# Altium schematic symbol library TIDA_00620.SchLib: 58 symbols (part 3 of 5)
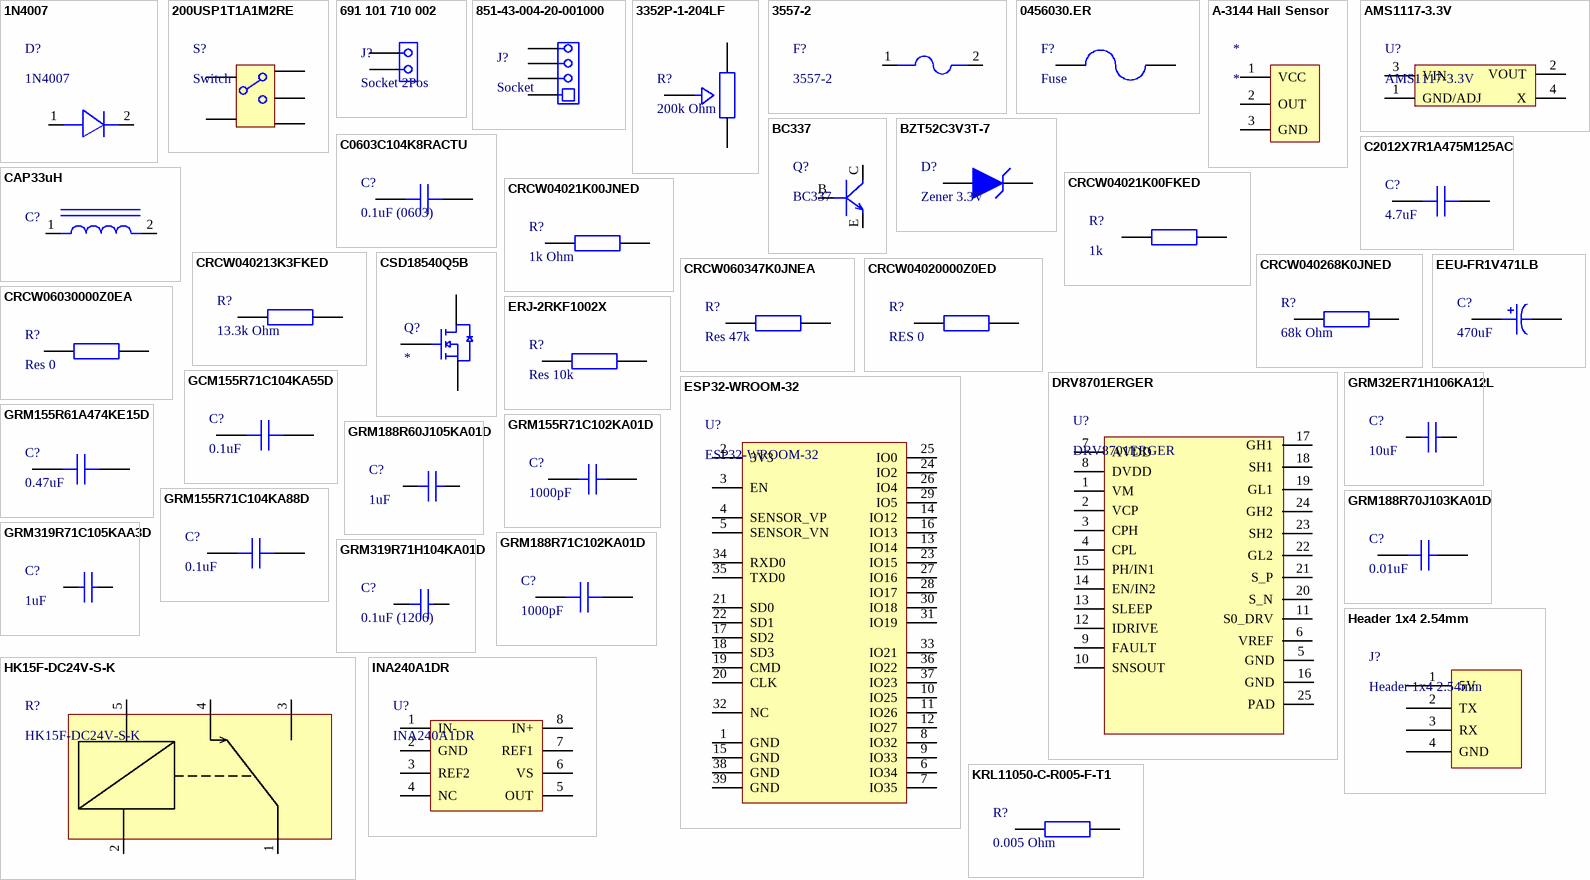
[diagram p3: symbols 1N4007 to KRL11050-C-R005-F-T1]

## CRCW04020000Z0ED
designator R?, comment RES 0
CRCW Series 0402 0.063 W 0 Ohm Jumper Surface Mount Thick Film Chip Resistor; Manufacturer: Vishay; Manufacturer Part Number: CRCW04020000Z0ED; Max Power Dissipation: 63mW; Value: 0Ω; Temperature Coefficient: 100ppm/°C; Tolerance: 5%; Voltage Rating: 50V; Supplier: Farnell; Supplier Part Number: 2121349; RoHS: Compliant; Category: Chip SMD Resistors; Stock: 10374823; Pricing: 10000=0,0033 (EUR); Case/Package: 0402; Case Code (Imperial): 0402; Case Code (Metric): 0402; China RoHS: Non-Compliant; Composition: Thick Film; Contact Plating: Tin; Depth: 500µm; Features: Automotive AEC-Q200; Height: 350µm; Lead Free: Lead Free; Length: 1mm; Lifecycle Status: Production; Max Operating Temperature: 155°C; Military Standard: Not; Min Operating Temperature: -55°C; Mounting Technology: Surface Mount; Pins: 2; Number of Terminals: 2; Number of Terminations: 2; Power Dissipation: 63mW; Power Rating: 63mW; Radiation Hardening: No; REACH SVHC: Yes; Schedule B: 8533210045, 8533210045|8533210045|8533210045|8533210045|8533210045|8533210045|8533210045|8533210045|8533210045|8533210045|8533210045|8533210045|8533210045|8533210045|8533210045|8533210045|8533210045|8533210045|8533210045|8533210045|8533210045|8533210045|8533210045|85; Termination: SMD/SMT; Voltage Rating (DC): 50V; Weight: 652.039032µg; Width: 500µm; ComponentLink1URL: https://datasheet.octopart.com:443/CRCW04020000Z0ED-Vishay-datasheet-175423584.pdf?src-supplier=IHS; ComponentLink1Description: https://datasheet.octopart.com:443/CRCW04020000Z0ED-Vishay-datasheet-175423584.pdf?src-supplier=IHS; ComponentLink2URL: https://datasheet.octopart.com:443/CRCW04020000Z0ED-Vishay-datasheet-5300368.pdf?src-supplier=Future+Electronics; ComponentLink2Description: https://datasheet.octopart.com:443/CRCW04020000Z0ED-Vishay-datasheet-5300368.pdf?src-supplier=Future+Electronics; ComponentLink3URL: https://datasheet.octopart.com:443/CRCW04020000Z0ED-Vishay-datasheet-62316122.pdf?src-supplier=Future+Electronics; ComponentLink3Description: https://datasheet.octopart.com:443/CRCW04020000Z0ED-Vishay-datasheet-62316122.pdf?src-supplier=Future+Electronics; ComponentLink4URL: https://datasheet.octopart.com:443/CRCW04020000Z0ED-Vishay-datasheet-83961561.pdf?src-supplier=Newark; ComponentLink4Description: https://datasheet.octopart.com:443/CRCW04020000Z0ED-Vishay-datasheet-83961561.pdf?src-supplier=Newark; ComponentLink5URL: https://datasheet.octopart.com:443/CRCW04020000Z0ED-Vishay-datasheet-14722531.pdf?src-supplier=Newark; ComponentLink5Description: https://datasheet.octopart.com:443/CRCW04020000Z0ED-Vishay-datasheet-14722531.pdf?src-supplier=Newark; ComponentLink6URL: https://datasheet.octopart.com:443/CRCW04020000Z0ED-Vishay-datasheet-11516975.pdf?src-supplier=Newark; ComponentLink6Description: https://datasheet.octopart.com:443/CRCW04020000Z0ED-Vishay-datasheet-11516975.pdf?src-supplier=Newark; ComponentLink7URL: https://datasheet.octopart.com:443/CRCW04020000Z0ED-Vishay-datasheet-41302739.pdf?src-supplier=Newark; ComponentLink7Description: https://datasheet.octopart.com:443/CRCW04020000Z0ED-Vishay-datasheet-41302739.pdf?src-supplier=Newark; ComponentLink8URL: https://datasheet.octopart.com:443/CRCW04020000Z0ED-Vishay-datasheet-27121962.pdf?src-supplier=Newark; ComponentLink8Description: https://datasheet.octopart.com:443/CRCW04020000Z0ED-Vishay-datasheet-27121962.pdf?src-supplier=Newark; ComponentLink9URL: https://datasheet.octopart.com:443/CRCW04020000Z0ED-Vishay-datasheet-62317933.pdf?src-supplier=element14+APAC; ComponentLink9Description: https://datasheet.octopart.com:443/CRCW04020000Z0ED-Vishay-datasheet-62317933.pdf?src-supplier=element14+APAC; ComponentLink10URL: https://datasheet.octopart.com:443/CRCW04020000Z0ED-Vishay-datasheet-16179825.pdf?src-supplier=element14+APAC; ComponentLink10Description: https://datasheet.octopart.com:443/CRCW04020000Z0ED-Vishay-datasheet-16179825.pdf?src-supplier=element14+APAC; ComponentLink11URL: https://datasheet.octopart.com:443/CRCW04020000Z0ED-Vishay-datasheet-66077789.pdf?src-supplier=element14+APAC; ComponentLink11Description: https://datasheet.octopart.com:443/CRCW04020000Z0ED-Vishay-datasheet-66077789.pdf?src-supplier=element14+APAC; ComponentLink12URL: https://datasheet.octopart.com:443/CRCW04020000Z0ED-Vishay-datasheet-5306405.pdf?src-supplier=RS+(Formerly+Allied+Electronics); ComponentLink12Description: https://datasheet.octopart.com:443/CRCW04020000Z0ED-Vishay-datasheet-5306405.pdf?src-supplier=RS+(Formerly+Allied+Electronics); ComponentLink13URL: https://datasheet.octopart.com:443/CRCW04020000Z0ED-Vishay-Dale-datasheet-47688880.pdf?src-supplier=RS+(Formerly+Allied+Electronics); ComponentLink13Description: https://datasheet.octopart.com:443/CRCW04020000Z0ED-Vishay-Dale-datasheet-47688880.pdf?src-supplier=RS+(Formerly+Allied+Electronics); ComponentLink14URL: https://datasheet.octopart.com:443/CRCW04020000Z0ED-Vishay-Dale-datasheet-38056517.pdf?src-supplier=RS+(Formerly+Allied+Electronics); ComponentLink14Description: https://datasheet.octopart.com:443/CRCW04020000Z0ED-Vishay-Dale-datasheet-38056517.pdf?src-supplier=RS+(Formerly+Allied+Electronics); ComponentLink15URL: https://datasheet.octopart.com:443/CRCW04020000Z0ED-Vishay-datasheet-12001583.pdf?src-supplier=RS+(Formerly+Allied+Electronics); ComponentLink15Description: https://datasheet.octopart.com:443/CRCW04020000Z0ED-Vishay-datasheet-12001583.pdf?src-supplier=RS+(Formerly+Allied+Electronics); ComponentLink16URL: https://datasheet.octopart.com:443/CRCW04020000Z0ED-Vishay-datasheet-134526670.pdf?src-supplier=TME; ComponentLink16Description: https://datasheet.octopart.com:443/CRCW04020000Z0ED-Vishay-datasheet-134526670.pdf?src-supplier=TME; ComponentLink17URL: https://datasheet.octopart.com:443/CRCW04020000Z0ED-Vishay-datasheet-17834126.pdf?src-supplier=TME; ComponentLink17Description: https://datasheet.octopart.com:443/CRCW04020000Z0ED-Vishay-datasheet-17834126.pdf?src-supplier=TME; ComponentLink18URL: https://datasheet.octopart.com:443/CRCW04020000Z0ED-Vishay-datasheet-17599201.pdf?src-supplier=TME; ComponentLink18Description: https://datasheet.octopart.com:443/CRCW04020000Z0ED-Vishay-datasheet-17599201.pdf?src-supplier=TME; ComponentLink19URL: https://datasheet.octopart.com/D-CRCW-e3-Standard-Thick-Film-Chip-Resistors-Vishay-datasheet-family-64.pdf; ComponentLink19Description: https://datasheet.octopart.com/D-CRCW-e3-Standard-Thick-Film-Chip-Resistors-Vishay-datasheet-family-64.pdf; ComponentLink20URL: https://datasheet.octopart.com:443/CRCW04020000Z0ED-Vishay-datasheet-13242068.pdf?src-supplier=Farnell; ComponentLink20Description: https://datasheet.octopart.com:443/CRCW04020000Z0ED-Vishay-datasheet-13242068.pdf?src-supplier=Farnell; ComponentLink21URL: https://datasheet.octopart.com:443/CRCW04020000Z0ED-Vishay-datasheet-13195083.pdf?src-supplier=Farnell; ComponentLink21Description: https://datasheet.octopart.com:443/CRCW04020000Z0ED-Vishay-datasheet-13195083.pdf?src-supplier=Farnell; ComponentLink22URL: https://datasheet.octopart.com:443/CRCW04020000Z0ED-Vishay-datasheet-13034211.pdf?src-supplier=Farnell; ComponentLink22Description: https://datasheet.octopart.com:443/CRCW04020000Z0ED-Vishay-datasheet-13034211.pdf?src-supplier=Farnell; ComponentLink23URL: https://datasheet.octopart.com:443/CRCW04020000Z0ED-Vishay-datasheet-12600034.pdf?src-supplier=Farnell; ComponentLink23Description: https://datasheet.octopart.com:443/CRCW04020000Z0ED-Vishay-datasheet-12600034.pdf?src-supplier=Farnell; ComponentLink24URL: https://datasheet.octopart.com:443/CRCW04020000Z0ED-Vishay-datasheet-12532161.pdf?src-supplier=Farnell; ComponentLink24Description: https://datasheet.octopart.com:443/CRCW04020000Z0ED-Vishay-datasheet-12532161.pdf?src-supplier=Farnell; ComponentLink25URL: https://datasheet.octopart.com:443/CRCW04020000Z0ED-Vishay-datasheet-12517896.pdf?src-supplier=Farnell; ComponentLink25Description: https://datasheet.octopart.com:443/CRCW04020000Z0ED-Vishay-datasheet-12517896.pdf?src-supplier=Farnell; ComponentLink26URL: https://datasheet.octopart.com:443/CRCW04020000Z0ED-Vishay-datasheet-12509762.pdf?src-supplier=Farnell; ComponentLink26Description: https://datasheet.octopart.com:443/CRCW04020000Z0ED-Vishay-datasheet-12509762.pdf?src-supplier=Farnell; ComponentLink27URL: https://datasheet.octopart.com:443/CRCW04020000Z0ED-Vishay-datasheet-10322335.pdf?src-supplier=Farnell; ComponentLink27Description: https://datasheet.octopart.com:443/CRCW04020000Z0ED-Vishay-datasheet-10322335.pdf?src-supplier=Farnell; ComponentLink28URL: https://datasheet.octopart.com:443/CRCW04020000Z0ED-Vishay-datasheet-8788789.pdf?src-supplier=Farnell; ComponentLink28Description: https://datasheet.octopart.com:443/CRCW04020000Z0ED-Vishay-datasheet-8788789.pdf?src-supplier=Farnell; ComponentLink29URL: https://datasheet.octopart.com:443/CRCW04020000Z0ED-Vishay-datasheet-8361388.pdf?src-supplier=Farnell; ComponentLink29Description: https://datasheet.octopart.com:443/CRCW04020000Z0ED-Vishay-datasheet-8361388.pdf?src-supplier=Farnell; ComponentLink30URL: https://datasheet.octopart.com:443/CRCW04020000Z0ED-Vishay-datasheet-546287.pdf?src-supplier=Farnell; ComponentLink30Description: https://datasheet.octopart.com:443/CRCW04020000Z0ED-Vishay-datasheet-546287.pdf?src-supplier=Farnell; ComponentLink31URL: https://datasheet.octopart.com:443/CRCW04020000Z0ED-Vishay-datasheet-14190200.pdf?src-supplier=iiiC; ComponentLink31Description: https://datasheet.octopart.com:443/CRCW04020000Z0ED-Vishay-datasheet-14190200.pdf?src-supplier=iiiC; ComponentLink32URL: https://datasheet.octopart.com:443/CRCW04020000Z0ED-Vishay-datasheet-11540273.pdf?src-supplier=Arrow+Electronics; ComponentLink32Description: https://datasheet.octopart.com:443/CRCW04020000Z0ED-Vishay-datasheet-11540273.pdf?src-supplier=Arrow+Electronics; ComponentLink33URL: https://datasheet.octopart.com:443/CRCW04020000Z0ED-Vishay-datasheet-8619608.pdf?src-supplier=element14; ComponentLink33Description: https://datasheet.octopart.com:443/CRCW04020000Z0ED-Vishay-datasheet-8619608.pdf?src-supplier=element14; ComponentLink34URL: https://datasheet.octopart.com:443/CRCW04020000Z0ED-Vishay-datasheet-5377255.pdf?src-supplier=Garrett; ComponentLink34Description: https://datasheet.octopart.com:443/CRCW04020000Z0ED-Vishay-datasheet-5377255.pdf?src-supplier=Garrett; ComponentLink35URL: https://datasheet.octopart.com:443/CRCW04020000Z0ED-Vishay-datasheet-148188.pdf?src-supplier=Garrett; ComponentLink35Description: https://datasheet.octopart.com:443/CRCW04020000Z0ED-Vishay-datasheet-148188.pdf?src-supplier=Garrett; ComponentLink36URL: https://datasheet.octopart.com:443/CRCW04020000Z0ED-Vishay-datasheet-42367.pdf?src-supplier=Garrett; ComponentLink36Description: https://datasheet.octopart.com:443/CRCW04020000Z0ED-Vishay-datasheet-42367.pdf?src-supplier=Garrett; ComponentLink37URL: http://sigma.octopart.com:80/rohs_certificate/D-CRCW-e3-Standard-Thick-Film-Chip-Resistors-Vishay-family-102.pdf?src-supplier=Compliance+Statements; ComponentLink37Description: http://sigma.octopart.com:80/rohs_certificate/D-CRCW-e3-Standard-Thick-Film-Chip-Resistors-Vishay-family-102.pdf?src-supplier=Compliance+Statements
footprint RES0402- CRCW04020000Z0ED (Chip Resistor, 2-Leads, Body 1,00x0,50mm, IPC Medium Density)
pins: 1, 2

## CRCW06030000Z0EA
designator R?, comment Res 0
Zero Ohm Resistor, Jumper, 0603 [1608 Metric], Thick Film, 100 mW, 2 A, Surface Mount Device; Manufacturer: Vishay; Manufacturer Part Number: CRCW06030000Z0EAC; Power Dissipation: 100mW; Value: 0Ω; Voltage Rating: 75V; Supplier: Farnell; Supplier Part Number: 4177541; RoHS: Compliant; Category: Chip SMD Resistors; Stock: 52368; Pricing: 10=0,0124, 100=0,0067, 500=0,0066, 1000=0,0064, 2500=0,0047, 5000=0,0029 (EUR); Case/Package: 0603; China RoHS: Non-Compliant; Composition: Thick Film; Contact Plating: Tin; Height: 450µm; Lead Free: Lead Free; Length: 1.55mm; Lifecycle Status: Production; Max Operating Temperature: 155°C; Min Operating Temperature: -55°C; Mounting Technology: Surface Mount; Pins: 2; Number of Terminals: 2; Power Rating: 100mW; REACH SVHC: Yes; Termination: Wraparound; Width: 800µm; ComponentLink1URL: https://datasheet.octopart.com:443/CRCW06030000Z0EAC-Vishay-datasheet-102570912.pdf?src-supplier=Upverter; ComponentLink1Description: https://datasheet.octopart.com:443/CRCW06030000Z0EAC-Vishay-datasheet-102570912.pdf?src-supplier=Upverter; ComponentLink2URL: https://datasheet.octopart.com:443/CRCW06030000Z0EAC-Vishay-datasheet-175423585.pdf?src-supplier=Newark; ComponentLink2Description: https://datasheet.octopart.com:443/CRCW06030000Z0EAC-Vishay-datasheet-175423585.pdf?src-supplier=Newark; ComponentLink3URL: https://datasheet.octopart.com:443/CRCW06030000Z0EAC-Vishay-datasheet-100063072.pdf?src-supplier=Future+Electronics; ComponentLink3Description: https://datasheet.octopart.com:443/CRCW06030000Z0EAC-Vishay-datasheet-100063072.pdf?src-supplier=Future+Electronics; ComponentLink4URL: https://datasheet.octopart.com:443/CRCW06030000Z0EAC-Vishay-datasheet-62316122.pdf?src-supplier=Future+Electronics; ComponentLink4Description: https://datasheet.octopart.com:443/CRCW06030000Z0EAC-Vishay-datasheet-62316122.pdf?src-supplier=Future+Electronics; ComponentLink5URL: http://sigma.octopart.com:80/rohs_statement/Vishay-company-15.pdf?src-supplier=Compliance+Statements; ComponentLink5Description: http://sigma.octopart.com:80/rohs_statement/Vishay-company-15.pdf?src-supplier=Compliance+Statements
footprint RES0603 - CRCW060347K0JNEA (Chip Resistor, 2-Leads, Body 1,63x0,85mm, IPC Medium Density CRCW06030000Z0EA)
pins: 1, 2

## CSD18540Q5B
designator Q?
60-V, N channel NexFET™ power MOSFET, single SON 5 mm x 6 mm, 2.2 mOhm 8-VSON-CLIP -55 to 175; Manufacturer: Texas Instruments; Manufacturer Part Number: CSD18540Q5B; Manufacturer Lifecycle Status: ACTIVE; Continuous Drain Current (ID): 29A; Drain to Source Resistance: 1.8mΩ; Drain to Source Voltage (Vdss): 60V; Fall Time: 3ns; Gate to Source Voltage (Vgs): 20V; Input Capacitance: 4.23nF; Max Junction Temperature (Tj): 175°C; Max Power Dissipation: 3.1W; Number of Channels: 1; Power Dissipation: 3.8W; Rds On Max: 2.2mΩ; Rise Time: 9ns; Turn-Off Delay Time: 20ns; Turn-On Delay Time: 6ns; Supplier: Arrow Electronics; Supplier Part Number: CSD18540Q5B; RoHS: Compliant; Category: MOSFETs; Stock: 2494; Pricing: 1=2,9541, 10=1,996, 100=1,557, 500=1,287, 1000=1,238 (USD); Contact Plating: Gold; Element Configuration: Single; Height: 0m; Lead Free: Contains Lead; Length: 5mm; Lifecycle Status: Production; Max Operating Temperature: 175°C; Min Operating Temperature: -55°C; Mounting Technology: Surface Mount; Pins: 8; Packaging: Tape & Reel (TR); Schedule B: 8541290080, 8541290080|8541290080|8541290080|8541290080|8541290080; Thickness: 950µm; Width: 5mm; ComponentLink1URL: https://datasheet.octopart.com:443/CSD18540Q5B-Texas-Instruments-datasheet-41215267.pdf?src-supplier=Texas+Instruments; ComponentLink1Description: https://datasheet.octopart.com:443/CSD18540Q5B-Texas-Instruments-datasheet-41215267.pdf?src-supplier=Texas+Instruments; ComponentLink2URL: https://octopart.com:443/opatz8j6/c1?t=ISFu1-n-gJ7N7b33qO17JmW3i98WAe6-qdvwo4eRIXB7W_2yAxMQE3dQvpzCzIrA0lbregClySomlHzFRyM4eBlNEAMzPcTyRgPuL5yv1St7ily1VDrDRrN5fHjn4A-rV4S6itXbFPe3IYpveXBLg-1H57t-PENPQQIhHyNanT-SE8YCS2MA-6pDqEI5zanHcAxrWSf4z3nUT2CAOlw1lpMVrLj3hLq-FRM65fNZsHtynSSi4978rsehlEL-uuPl36TrjaypKMgB8MXF0CgE0nmymmpSSNhgdzSnMUAZN2MvRrEkWpcxgIFWmAkbO9nMsz5cbdSuC3K-OfOG5E8cbAbFmWjkK-5bOBpwZZAQcX5t5rNqpOqKckmRpAsMav-eMVNOj2noOnMw&src-supplier=Texas+Instruments; ComponentLink2Description: https://octopart.com:443/opatz8j6/c1?t=ISFu1-n-gJ7N7b33qO17JmW3i98WAe6-qdvwo4eRIXB7W_2yAxMQE3dQvpzCzIrA0lbregClySomlHzFRyM4eBlNEAMzPcTyRgPuL5yv1St7ily1VDrDRrN5fHjn4A-rV4S6itXbFPe3IYpveXBLg-1H57t-PENPQQIhHyNanT-SE8YCS2MA-6pDqEI5zanHcAxrWSf4z3nUT2CAOlw1lpMVrLj3hLq-FRM65fNZsHtynSSi4978rsehlEL-uuPl36TrjaypKMgB8MXF0CgE0nmymmpSSNhgdzSnMUAZN2MvRrEkWpcxgIFWmAkbO9nMsz5cbdSuC3K-OfOG5E8cbAbFmWjkK-5bOBpwZZAQcX5t5rNqpOqKckmRpAsMav-eMVNOj2noOnMw&src-supplier=Texas+Instruments; ComponentLink3URL: https://datasheet.octopart.com:443/CSD18540Q5B-Texas-Instruments-datasheet-27303987.pdf?src-supplier=Texas+Instruments; ComponentLink3Description: https://datasheet.octopart.com:443/CSD18540Q5B-Texas-Instruments-datasheet-27303987.pdf?src-supplier=Texas+Instruments; ComponentLink4URL: https://datasheet.octopart.com:443/CSD18540Q5B-Texas-Instruments-datasheet-145028107.pdf?src-supplier=Arrow.cn; ComponentLink4Description: https://datasheet.octopart.com:443/CSD18540Q5B-Texas-Instruments-datasheet-145028107.pdf?src-supplier=Arrow.cn; ComponentLink5URL: http://sigma.octopart.com:80/reach_statement/Texas-Instruments-company-64.pdf?src-supplier=Compliance+Statements; ComponentLink5Description: http://sigma.octopart.com:80/reach_statement/Texas-Instruments-company-64.pdf?src-supplier=Compliance+Statements; ComponentLink6URL: http://sigma.octopart.com:80/conflict_mineral_statement/Texas-Instruments-company-63.pdf?src-supplier=Compliance+Statements; ComponentLink6Description: http://sigma.octopart.com:80/conflict_mineral_statement/Texas-Instruments-company-63.pdf?src-supplier=Compliance+Statements
footprint SON 5x6mm - CSD18540Q5B
pins: 1, 2  , 3

## DRV8701ERGER
designator U?
IC MOTOR DRIVER 0V-5.5V 24VQFN / DRV8701 Brushed DC Motor Full-Bridge Gate Driver; Manufacturer: Texas Instruments; Manufacturer Lifecycle Status: ACTIVE; Interface: Parallel; Max Junction Temperature (Tj): 150°C; Max Supply Voltage: 45V; Min Supply Voltage: 5.9V; Nominal Supply Current: 6mA; Number of Outputs: 1; Supplier: Mouser; Supplier Part Number: 595-DRV8701ERGER; Manufacturer Part Number: DRV8701ERGER; RoHS: Compliant; Category: Motor Drivers; Stock: 27951; Pricing: 1=2,5, 10=1,86, 50=1,7, 100=1,53, 1000=1,35, 10000=1,28 (USD); Ambient Temperature Range High: 125°C; Case/Package: VQFN; Height: 1mm; Lead Free: Lead Free; Length: 4mm; Lifecycle Status: Production; Max Operating Temperature: 125°C; Min Operating Temperature: -40°C; Motor Type: Brushed; Mounting Technology: Surface Mount; Pins: 24; Packaging: Tape & Reel (TR); Schedule B: 8542390000, 8542390000|8542390000|8542390000|8542390000|8542390000; Thickness: 880µm; Width: 4mm; ComponentLink1URL: https://octopart.com:443/opatz8j6/c1?t=ehAvkSXBWFOcNy9gonZ63OFc4bGZy_2bC1yLMMZIE2dHvvmlfP0jhbvnU8Lmxs1os63rxVSLRkGfXEyoXZwuI3xa-A0nKTkUdkof3FcH7DoixXm7eccnxPjwKUbon8TyokAeKmHARyr0YTEYu2yTSqZqwhN4T5qjFzB3LmGwYiWcRp1IAWblEDvyTzgm9MlCjGAc7pFp8-BPtV_aZqMkSCa5FXPY0wjPPEvaFqR9bR4LURryWP85fi2f2SdWa8VnjSuqI1QvioQUQNJM9wxRjQVNXkbLhzpyfd5lk-jkTzwJSa7BcbDh8f7bv5xnoKYdxg9tK1lmzh9ymQi7DFEKtgHp_jmJbFmHhosrZ3PDnB4z80oZFuFmV3wgX_LxNwYzUNjWA44&src-supplier=Texas+Instruments; ComponentLink1Description: https://octopart.com:443/opatz8j6/c1?t=ehAvkSXBWFOcNy9gonZ63OFc4bGZy_2bC1yLMMZIE2dHvvmlfP0jhbvnU8Lmxs1os63rxVSLRkGfXEyoXZwuI3xa-A0nKTkUdkof3FcH7DoixXm7eccnxPjwKUbon8TyokAeKmHARyr0YTEYu2yTSqZqwhN4T5qjFzB3LmGwYiWcRp1IAWblEDvyTzgm9MlCjGAc7pFp8-BPtV_aZqMkSCa5FXPY0wjPPEvaFqR9bR4LURryWP85fi2f2SdWa8VnjSuqI1QvioQUQNJM9wxRjQVNXkbLhzpyfd5lk-jkTzwJSa7BcbDh8f7bv5xnoKYdxg9tK1lmzh9ymQi7DFEKtgHp_jmJbFmHhosrZ3PDnB4z80oZFuFmV3wgX_LxNwYzUNjWA44&src-supplier=Texas+Instruments; ComponentLink2URL: https://sigma.octopart.com:443/102096900/technical_drawing/Texas-Instruments-DRV8701ERGER.pdf?src-supplier=Texas+Instruments; ComponentLink2Description: https://sigma.octopart.com:443/102096900/technical_drawing/Texas-Instruments-DRV8701ERGER.pdf?src-supplier=Texas+Instruments; ComponentLink3URL: https://sigma.octopart.com:443/49249793/technical_drawing/Texas-Instruments-DRV8701ERGER.pdf?src-supplier=Texas+Instruments; ComponentLink3Description: https://sigma.octopart.com:443/49249793/technical_drawing/Texas-Instruments-DRV8701ERGER.pdf?src-supplier=Texas+Instruments; ComponentLink4URL: https://datasheet.octopart.com:443/DRV8701ERGER-Texas-Instruments-datasheet-149152576.pdf?src-supplier=SHENGYU+ELECTRONICS; ComponentLink4Description: https://datasheet.octopart.com:443/DRV8701ERGER-Texas-Instruments-datasheet-149152576.pdf?src-supplier=SHENGYU+ELECTRONICS; ComponentLink5URL: https://datasheet.octopart.com:443/DRV8701ERGER-Texas-Instruments-datasheet-41215435.pdf?src-supplier=Future+Electronics; ComponentLink5Description: https://datasheet.octopart.com:443/DRV8701ERGER-Texas-Instruments-datasheet-41215435.pdf?src-supplier=Future+Electronics; ComponentLink6URL: https://datasheet.octopart.com:443/DRV8701ERGER-Texas-Instruments-datasheet-161906130.pdf?src-supplier=LCSC; ComponentLink6Description: https://datasheet.octopart.com:443/DRV8701ERGER-Texas-Instruments-datasheet-161906130.pdf?src-supplier=LCSC; ComponentLink7URL: https://datasheet.octopart.com:443/DRV8701ERGER-Texas-Instruments-datasheet-140571382.pdf?src-supplier=Arrow.cn; ComponentLink7Description: https://datasheet.octopart.com:443/DRV8701ERGER-Texas-Instruments-datasheet-140571382.pdf?src-supplier=Arrow.cn; ComponentLink8URL: http://sigma.octopart.com:80/reach_statement/Texas-Instruments-company-64.pdf?src-supplier=Compliance+Statements; ComponentLink8Description: http://sigma.octopart.com:80/reach_statement/Texas-Instruments-company-64.pdf?src-supplier=Compliance+Statements; ComponentLink9URL: http://sigma.octopart.com:80/conflict_mineral_statement/Texas-Instruments-company-63.pdf?src-supplier=Compliance+Statements; ComponentLink9Description: http://sigma.octopart.com:80/conflict_mineral_statement/Texas-Instruments-company-63.pdf?src-supplier=Compliance+Statements
footprint DRV8701ERGER (QFN, 24-Leads, Body 4,00x4,00mm, Pitch 0,50mm, Thermal Pad 2,80x2,80mm, IPC Medium Density)
pins: 1 VM (power), 2 VCP (power), 3 CPH, 4 CPL, 5 GND (power), 6 VREF, 7 AVDD, 8 DVDD, 9 FAULT, 10 SNSOUT, 11 S0_DRV, 12 IDRIVE, 13 SLEEP, 14 EN/IN2, 15 PH/IN1, 16 GND (power), 17 GH1, 18 SH1, 19 GL1, 20 S_N, 21 S_P, 22 GL2, 23 SH2, 24 GH2, 25 PAD (power)

## EEU-FR1V471LB
designator C?, comment 470uF
Aluminum Electrolytic Capacitor, Polarized, Aluminum (wet), 25V, 20% +Tol, 20% -Tol, 560uF; Manufacturer: Panasonic; Manufacturer Part Number: EEU-FR1V471LB; Manufacturer Lifecycle Status: ACTIVE; Part Series: FR-A; Value: 470µF; ESR (Equivalent Series Resistance): 30mΩ; Lead Diameter: 600µm; Leakage Current: 164.5µA; Life (Hours): 9000hours; Polarity: Polar; Ripple Current: 1.56A; Voltage Rating: 35V; Supplier: Future Electronics; Supplier Part Number: 3028793; RoHS: Compliant; Category: Aluminum Electrolytic Capacitors; Stock: 24000; Pricing: 1000=0,131, 2000=0,13, 4000=0,128, 5000=0,127, 15000=0,124 (USD); Case/Package: Radial; Contact Plating: Tin; Diameter: 8mm; Features: General Purpose; Height: 22mm; Height - Seated (Max): 21.9964mm; Impedance: 30mΩ; Lead Free: Lead Free; Lead Pitch: 5mm; Length: 20mm; Lifecycle Status: Production; Max Operating Temperature: 105°C; Min Operating Temperature: -40°C; Mounting Technology: PCB, Through Hole; Number of Terminals: 2; Radiation Hardening: No; REACH SVHC: Yes; Schedule B: 8532220020, 8532220020|8532220020|8532220020|8532220020|8532220020; Terminal Pitch: 5mm; Termination: Radial; Tolerance: 20%; Voltage Rating (DC): 35V; ComponentLink1URL: https://datasheet.octopart.com:443/EEU-FR1V471LB-Panasonic-datasheet-62330550.pdf?src-supplier=Panasonic; ComponentLink1Description: https://datasheet.octopart.com:443/EEU-FR1V471LB-Panasonic-datasheet-62330550.pdf?src-supplier=Panasonic; ComponentLink2URL: https://datasheet.octopart.com:443/EEU-FR1V471LB-Panasonic-datasheet-154766147.pdf?src-supplier=JRH+Electronics; ComponentLink2Description: https://datasheet.octopart.com:443/EEU-FR1V471LB-Panasonic-datasheet-154766147.pdf?src-supplier=JRH+Electronics; ComponentLink3URL: https://datasheet.octopart.com:443/EEU-FR1V471LB-Panasonic-datasheet-38939130.pdf?src-supplier=RS+(Formerly+Allied+Electronics); ComponentLink3Description: https://datasheet.octopart.com:443/EEU-FR1V471LB-Panasonic-datasheet-38939130.pdf?src-supplier=RS+(Formerly+Allied+Electronics); ComponentLink4URL: https://datasheet.octopart.com:443/EEU-FR1V471LB-Panasonic-datasheet-27908667.pdf?src-supplier=RS+(Formerly+Allied+Electronics); ComponentLink4Description: https://datasheet.octopart.com:443/EEU-FR1V471LB-Panasonic-datasheet-27908667.pdf?src-supplier=RS+(Formerly+Allied+Electronics); ComponentLink5URL: https://datasheet.octopart.com:443/EEU-FR1V471LB-Panasonic-datasheet-56871308.pdf?src-supplier=RS+(Formerly+Allied+Electronics); ComponentLink5Description: https://datasheet.octopart.com:443/EEU-FR1V471LB-Panasonic-datasheet-56871308.pdf?src-supplier=RS+(Formerly+Allied+Electronics); ComponentLink6URL: https://datasheet.octopart.com:443/EEU-FR1V471LB-Panasonic-datasheet-13267316.pdf?src-supplier=Newark; ComponentLink6Description: https://datasheet.octopart.com:443/EEU-FR1V471LB-Panasonic-datasheet-13267316.pdf?src-supplier=Newark; ComponentLink7URL: https://datasheet.octopart.com:443/EEU-FR1V471LB-Panasonic-datasheet-16820802.pdf?src-supplier=Newark; ComponentLink7Description: https://datasheet.octopart.com:443/EEU-FR1V471LB-Panasonic-datasheet-16820802.pdf?src-supplier=Newark; ComponentLink8URL: https://datasheet.octopart.com:443/EEUFR1V471LB-Panasonic-datasheet-150469843.pdf?src-supplier=TME; ComponentLink8Description: https://datasheet.octopart.com:443/EEUFR1V471LB-Panasonic-datasheet-150469843.pdf?src-supplier=TME; ComponentLink9URL: https://datasheet.octopart.com:443/EEU-FR1V471LB-Panasonic-datasheet-32589663.pdf?src-supplier=Electro+Sonic; ComponentLink9Description: https://datasheet.octopart.com:443/EEU-FR1V471LB-Panasonic-datasheet-32589663.pdf?src-supplier=Electro+Sonic
footprint RCAP, 8x20mm -EEU-FR1V471LB (RCAP, 8x20mm - Panasonic)
pins: N 2, P 1

## ERJ-2RKF1002X
designator R?, comment Res 10k
Res Thick Film 0402 10K Ohm 1% 1/10W ±100ppm/°C Molded SMD Punched Carrier T/R; Manufacturer: Panasonic; Manufacturer Part Number: ERJ-2RKF1002X; Manufacturer Lifecycle Status: ACTIVE; Part Series: Precision Thick Film Chip Resistors; Max Power Dissipation: 100mW; Value: 10kΩ; Voltage Rating: 50V; Supplier: Farnell; Supplier Part Number: 2397284; RoHS: Compliant; Category: Chip SMD Resistors; Stock: 10700000; Pricing: 10000=0,005 (EUR); Case/Package: 0402; Case Code (Imperial): 0402; China RoHS: Non-Compliant; Composition: Thick Film; Contact Plating: Tin; Depth: 500µm; Features: Automotive AEC-Q200; Height: 350µm; Length: 1mm; Lifecycle Status: Production; Max Operating Temperature: 155°C; Military Standard: Not; Min Operating Temperature: -55°C; Mounting Technology: Surface Mount; Pins: 2; Number of Terminals: 2; Number of Terminations: 2; Packaging: Cut Tape; Power Dissipation: 100mW; Power Rating: 100mW; Radiation Hardening: No; REACH SVHC: Yes; Schedule B: 8533210045, 8533210045|8533210045|8533210045|8533210045|8533210045|8533210045|8533210045|8533210045|8533210045|8533210045|8533210045|8533210045|8533210045|8533210045|8533210045|8533210045|8533210045|8533210045|8533210045|8533210045|8533210045|8533210045|8533210045|85; Temperature Coefficient: 100ppm/°C; Termination: SMD/SMT; Tolerance: 1%; Voltage Rating (DC): 50V; Width: 500µm; Working Voltage: 50V; ComponentLink1URL: https://datasheet.octopart.com:443/ERJ-2RKF1002X-Panasonic-datasheet-82288794.pdf?src-supplier=Panasonic; ComponentLink1Description: https://datasheet.octopart.com:443/ERJ-2RKF1002X-Panasonic-datasheet-82288794.pdf?src-supplier=Panasonic; ComponentLink2URL: https://datasheet.octopart.com:443/ERJ-2RKF1002X-Panasonic-datasheet-13266541.pdf?src-supplier=RS+(Formerly+Allied+Electronics); ComponentLink2Description: https://datasheet.octopart.com:443/ERJ-2RKF1002X-Panasonic-datasheet-13266541.pdf?src-supplier=RS+(Formerly+Allied+Electronics); ComponentLink3URL: https://datasheet.octopart.com:443/ERJ-2RKF1002X-Panasonic-datasheet-10025800.pdf?src-supplier=Future+Electronics; ComponentLink3Description: https://datasheet.octopart.com:443/ERJ-2RKF1002X-Panasonic-datasheet-10025800.pdf?src-supplier=Future+Electronics; ComponentLink4URL: https://datasheet.octopart.com:443/ERJ-2RKF1002X-Panasonic-datasheet-8853621.pdf?src-supplier=Future+Electronics; ComponentLink4Description: https://datasheet.octopart.com:443/ERJ-2RKF1002X-Panasonic-datasheet-8853621.pdf?src-supplier=Future+Electronics; ComponentLink5URL: https://datasheet.octopart.com:443/ERJ-2RKF1002X-Panasonic-datasheet-5313456.pdf?src-supplier=Future+Electronics; ComponentLink5Description: https://datasheet.octopart.com:443/ERJ-2RKF1002X-Panasonic-datasheet-5313456.pdf?src-supplier=Future+Electronics; ComponentLink6URL: https://datasheet.octopart.com:443/ERJ-2RKF1002X-Panasonic-datasheet-48891056.pdf?src-supplier=Farnell; ComponentLink6Description: https://datasheet.octopart.com:443/ERJ-2RKF1002X-Panasonic-datasheet-48891056.pdf?src-supplier=Farnell; ComponentLink7URL: https://datasheet.octopart.com:443/ERJ-2RKF1002X-Panasonic-datasheet-136608610.pdf?src-supplier=Farnell; ComponentLink7Description: https://datasheet.octopart.com:443/ERJ-2RKF1002X-Panasonic-datasheet-136608610.pdf?src-supplier=Farnell; ComponentLink8URL: https://datasheet.octopart.com:443/ERJ-2RKF1002X-Panasonic-datasheet-154766169.pdf?src-supplier=Master+Electronics; ComponentLink8Description: https://datasheet.octopart.com:443/ERJ-2RKF1002X-Panasonic-datasheet-154766169.pdf?src-supplier=Master+Electronics; ComponentLink9URL: https://datasheet.octopart.com:443/ERJ2RKF1002X-Panasonic-datasheet-188592431.pdf?src-supplier=TME; ComponentLink9Description: https://datasheet.octopart.com:443/ERJ2RKF1002X-Panasonic-datasheet-188592431.pdf?src-supplier=TME; ComponentLink10URL: https://datasheet.octopart.com:443/ERJ2RKF1002X-Panasonic-datasheet-164353789.pdf?src-supplier=TME; ComponentLink10Description: https://datasheet.octopart.com:443/ERJ2RKF1002X-Panasonic-datasheet-164353789.pdf?src-supplier=TME; ComponentLink11URL: https://datasheet.octopart.com:443/ERJ2RKF1002X-Panasonic-datasheet-168681906.pdf?src-supplier=Newark; ComponentLink11Description: https://datasheet.octopart.com:443/ERJ2RKF1002X-Panasonic-datasheet-168681906.pdf?src-supplier=Newark; ComponentLink12URL: https://datasheet.octopart.com/ERJ-2RKF1002X-Panasonic-datasheet-78375410.pdf; ComponentLink12Description: https://datasheet.octopart.com/ERJ-2RKF1002X-Panasonic-datasheet-78375410.pdf; ComponentLink13URL: https://datasheet.octopart.com/Precision-Thick-Film-Chip-Resistors-Panasonic-datasheet-family-106.pdf; ComponentLink13Description: https://datasheet.octopart.com/Precision-Thick-Film-Chip-Resistors-Panasonic-datasheet-family-106.pdf; ComponentLink14URL: https://datasheet.octopart.com:443/ERJ-2RKF1002X-Panasonic-datasheet-11542829.pdf?src-supplier=Arrow+Electronics; ComponentLink14Description: https://datasheet.octopart.com:443/ERJ-2RKF1002X-Panasonic-datasheet-11542829.pdf?src-supplier=Arrow+Electronics; ComponentLink15URL: https://datasheet.octopart.com:443/ERJ-2RKF1002X-Panasonic-datasheet-7538305.pdf?src-supplier=Jameco; ComponentLink15Description: https://datasheet.octopart.com:443/ERJ-2RKF1002X-Panasonic-datasheet-7538305.pdf?src-supplier=Jameco; ComponentLink16URL: https://datasheet.octopart.com:443/ERJ-2RKF1002X-Panasonic-datasheet-118621.pdf?src-supplier=DigiKey; ComponentLink16Description: https://datasheet.octopart.com:443/ERJ-2RKF1002X-Panasonic-datasheet-118621.pdf?src-supplier=DigiKey; ComponentLink17URL: https://datasheet.octopart.com:443/ERJ-2RKF1002X-Panasonic-datasheet-41391857.pdf?src-supplier=Electro+Sonic; ComponentLink17Description: https://datasheet.octopart.com:443/ERJ-2RKF1002X-Panasonic-datasheet-41391857.pdf?src-supplier=Electro+Sonic
footprint RES0402 - ERJ-2RKF1002X (Chip Resistor, 2-Leads, Body 1,00x0,50mm, IPC Medium Density)
pins: 1, 2

## ESP32-WROOM-32
designator U?
footprint ESP32-32
pins: 1 GND, 2 3V3, 3 EN, 4 SENSOR_VP, 5 SENSOR_VN, 6 IO34, 7 IO35, 8 IO32, 9 IO33, 10 IO25, 11 IO26, 12 IO27, 13 IO14, 14 IO12, 15 GND, 16 IO13, 17 SD2, 18 SD3, 19 CMD, 20 CLK, 21 SD0, 22 SD1, 23 IO15, 24 IO2, 25 IO0, 26 IO4, 27 IO16, 28 IO17, 29 IO5, 30 IO18, 31 IO19, 32 NC, 33 IO21, 34 RXD0, 35 TXD0, 36 IO22, 37 IO23, 38 GND, 39 GND

## GCM155R71C104KA55D
designator C?, comment 0.1uF
0402 0.1 uF 16 V ±10 % Tolerance X7R Surface Mount Multilayer Ceramic Capacitor; Manufacturer: Murata; Manufacturer Part Number: GCM155R71C104KA55D; Manufacturer Lifecycle Status: IN PRODUCTION; Value: 100nF; Tolerance: 10%; Voltage: 16V; Supplier: Farnell; Supplier Part Number: 3581533; RoHS: Compliant; Category: Ceramic Capacitors; Stock: 290000; Pricing: 10000=0,0038 (EUR); Case/Package: 0402; Case Code (Imperial): 0402; Case Code (Metric): 1005; Depth: 500µm; Dielectric: X7R; Dielectric Material: Ceramic; Height: 500µm; Lead Free: Lead Free; Length: 1mm; Lifecycle Status: Production; Material: Ceramic; Max Operating Temperature: 125°C; Min Operating Temperature: -55°C; Mounting Technology: Surface Mount; Number of Terminals: 2; Packaging: Cut Tape; Radiation Hardening: No; Ratings: AEC-Q200; REACH SVHC: Yes; Schedule B: 8532240020, 8532240020|8532240020, 8532240020|8532240020|8532240020, 8532240020|8532240020|8532240020|8532240020; Termination: SMD/SMT; Voltage Rating: 16V; Voltage Rating (DC): 16V; Width: 500µm; ComponentLink1URL: https://datasheet.octopart.com:443/GCM155R71C104KA55D-Murata-datasheet-149522428.pdf?src-supplier=Newark; ComponentLink1Description: https://datasheet.octopart.com:443/GCM155R71C104KA55D-Murata-datasheet-149522428.pdf?src-supplier=Newark; ComponentLink2URL: https://datasheet.octopart.com:443/GCM155R71C104KA55D-Murata-datasheet-11777063.pdf?src-supplier=_legacy+Avnet; ComponentLink2Description: https://datasheet.octopart.com:443/GCM155R71C104KA55D-Murata-datasheet-11777063.pdf?src-supplier=_legacy+Avnet; ComponentLink3URL: https://datasheet.octopart.com:443/GCM155R71C104KA55D-Murata-datasheet-14404342.pdf?src-supplier=Future+Electronics; ComponentLink3Description: https://datasheet.octopart.com:443/GCM155R71C104KA55D-Murata-datasheet-14404342.pdf?src-supplier=Future+Electronics; ComponentLink4URL: https://datasheet.octopart.com:443/GCM155R71C104KA55D-Murata-datasheet-44104237.pdf?src-supplier=Future+Electronics; ComponentLink4Description: https://datasheet.octopart.com:443/GCM155R71C104KA55D-Murata-datasheet-44104237.pdf?src-supplier=Future+Electronics; ComponentLink5URL: https://datasheet.octopart.com:443/GCM155R71C104KA55D-Murata-datasheet-165579661.pdf?src-supplier=TME; ComponentLink5Description: https://datasheet.octopart.com:443/GCM155R71C104KA55D-Murata-datasheet-165579661.pdf?src-supplier=TME; ComponentLink6URL: https://datasheet.octopart.com:443/GCM155R71C104KA55D-Murata-datasheet-62117434.pdf?src-supplier=TME; ComponentLink6Description: https://datasheet.octopart.com:443/GCM155R71C104KA55D-Murata-datasheet-62117434.pdf?src-supplier=TME; ComponentLink7URL: https://datasheet.octopart.com:443/GCM155R71C104KA55D-Murata-datasheet-141266224.pdf?src-supplier=Ciiva; ComponentLink7Description: https://datasheet.octopart.com:443/GCM155R71C104KA55D-Murata-datasheet-141266224.pdf?src-supplier=Ciiva; ComponentLink8URL: https://datasheet.octopart.com:443/GCM155R71C104KA55D-Murata-datasheet-140656701.pdf?src-supplier=Ciiva; ComponentLink8Description: https://datasheet.octopart.com:443/GCM155R71C104KA55D-Murata-datasheet-140656701.pdf?src-supplier=Ciiva; ComponentLink9URL: https://datasheet.octopart.com:443/GCM155R71C104KA55D-Murata-datasheet-138716406.pdf?src-supplier=Ciiva; ComponentLink9Description: https://datasheet.octopart.com:443/GCM155R71C104KA55D-Murata-datasheet-138716406.pdf?src-supplier=Ciiva; ComponentLink10URL: https://datasheet.octopart.com:443/GCM155R71C104KA55D-Murata-datasheet-12515163.pdf?src-supplier=Farnell; ComponentLink10Description: https://datasheet.octopart.com:443/GCM155R71C104KA55D-Murata-datasheet-12515163.pdf?src-supplier=Farnell; ComponentLink11URL: http://sigma.octopart.com:80/reach_statement/Murata-company-16.pdf?src-supplier=Compliance+Statements; ComponentLink11Description: http://sigma.octopart.com:80/reach_statement/Murata-company-16.pdf?src-supplier=Compliance+Statements
footprint CAP0402- GCM155R71C104KA55D (Chip Capacitor, 2-Leads, Body 1,00x0,50mm, IPC Medium Density)
pins: 1, 2

## GRM32ER71H106KA12L
designator C?, comment 10uF
50V 10uF X7R ±10% 1210 Multilayer Ceramic Capacitors MLCC - SMD/SMT ROHS; Manufacturer: Murata; Manufacturer Part Number: GRM32ER71H106KA12L; Value: 10µF; Supplier: Arrow Electronics; Supplier Part Number: GRM32ER71H106KA12L; RoHS: Compliant; Category: Ceramic Capacitors; Stock: 87000; Pricing: 1000=0,294, 2000=0,286, 3000=0,279, 4000=0,276, 5000=0,269, 10000=0,266 (USD); Case/Package: 1210; Case Code (Imperial): 1210; Case Code (Metric): 3225; Depth: 2.5mm; Dielectric: X7R; Dielectric Material: Ceramic; Height: 2.5mm; Lead Free: Lead Free; Length: 3.2mm; Lifecycle Status: Production; Material: Ceramic; Max Operating Temperature: 125°C; Min Operating Temperature: -55°C; Mounting Technology: Surface Mount; Number of Terminals: 2; Packaging: Cut Tape; Radiation Hardening: No; REACH SVHC: Yes; Schedule B: 8532240020, 8532240020|8532240020|8532240020|8532240020|8532240020; Termination: SMD/SMT; Tolerance: 10%; Voltage: 50V; Voltage Rating: 50V; Voltage Rating (DC): 50V; Width: 2.5mm; ComponentLink1URL: https://datasheet.octopart.com:443/GRM32ER71H106KA12L-Murata-datasheet-182093906.pdf?src-supplier=IHS; ComponentLink1Description: https://datasheet.octopart.com:443/GRM32ER71H106KA12L-Murata-datasheet-182093906.pdf?src-supplier=IHS; ComponentLink2URL: https://datasheet.octopart.com:443/GRM32ER71H106KA12L-Murata-datasheet-22975648.pdf?src-supplier=Newark; ComponentLink2Description: https://datasheet.octopart.com:443/GRM32ER71H106KA12L-Murata-datasheet-22975648.pdf?src-supplier=Newark; ComponentLink3URL: https://datasheet.octopart.com:443/GRM32ER71H106KA12L-Murata-datasheet-62317418.pdf?src-supplier=element14+APAC; ComponentLink3Description: https://datasheet.octopart.com:443/GRM32ER71H106KA12L-Murata-datasheet-62317418.pdf?src-supplier=element14+APAC; ComponentLink4URL: https://datasheet.octopart.com/GRM32ER71H106KA12L-Murata-datasheet-12515295.pdf; ComponentLink4Description: https://datasheet.octopart.com/GRM32ER71H106KA12L-Murata-datasheet-12515295.pdf; ComponentLink5URL: https://datasheet.octopart.com/GRM32ER71H106KA12L-Murata-datasheet-12510076.pdf; ComponentLink5Description: https://datasheet.octopart.com/GRM32ER71H106KA12L-Murata-datasheet-12510076.pdf; ComponentLink6URL: https://datasheet.octopart.com/GRM32ER71H106KA12L-Murata-datasheet-11978611.pdf; ComponentLink6Description: https://datasheet.octopart.com/GRM32ER71H106KA12L-Murata-datasheet-11978611.pdf; ComponentLink7URL: https://datasheet.octopart.com/GRM32ER71H106KA12L-Murata-datasheet-10025737.pdf; ComponentLink7Description: https://datasheet.octopart.com/GRM32ER71H106KA12L-Murata-datasheet-10025737.pdf; ComponentLink8URL: https://datasheet.octopart.com/GRM32ER71H106KA12L-Murata-datasheet-8819587.pdf; ComponentLink8Description: https://datasheet.octopart.com/GRM32ER71H106KA12L-Murata-datasheet-8819587.pdf; ComponentLink9URL: https://datasheet.octopart.com/GRM32ER71H106KA12L-Murata-datasheet-12553172.pdf; ComponentLink9Description: https://datasheet.octopart.com/GRM32ER71H106KA12L-Murata-datasheet-12553172.pdf; ComponentLink10URL: https://datasheet.octopart.com:443/GRM32ER71H106KA12L-Murata-datasheet-83187960.pdf?src-supplier=TME; ComponentLink10Description: https://datasheet.octopart.com:443/GRM32ER71H106KA12L-Murata-datasheet-83187960.pdf?src-supplier=TME; ComponentLink11URL: https://datasheet.octopart.com:443/GRM32ER71H106KA12L-Murata-datasheet-22122223.pdf?src-supplier=Future+Electronics; ComponentLink11Description: https://datasheet.octopart.com:443/GRM32ER71H106KA12L-Murata-datasheet-22122223.pdf?src-supplier=Future+Electronics; ComponentLink12URL: https://datasheet.octopart.com:443/GRM32ER71H106KA12L-Murata-datasheet-44109769.pdf?src-supplier=Future+Electronics; ComponentLink12Description: https://datasheet.octopart.com:443/GRM32ER71H106KA12L-Murata-datasheet-44109769.pdf?src-supplier=Future+Electronics; ComponentLink13URL: http://sigma.octopart.com:80/reach_statement/Murata-company-16.pdf?src-supplier=Compliance+Statements; ComponentLink13Description: http://sigma.octopart.com:80/reach_statement/Murata-company-16.pdf?src-supplier=Compliance+Statements
footprint CAP1210- GRM32ER71H106KA12L (Chip Capacitor, 2-Leads, Body 3,20x2,50mm, IPC Medium Density)
pins: 1, 2

## GRM155R61A474KE15D
designator C?, comment 0.47uF
Capacitor, Ceramic, Multilayer, 10 V, X5R, 0.47 Uf, Surface Mount, 0402; Manufacturer: Murata; Manufacturer Part Number: GRM155R61A474KE15D; Manufacturer Lifecycle Status: NRND; Manufacturer Package Identifier: GRM15-0.1; Value: 470nF; Dissipation Factor: 0.1%; Tolerance: 10%; Voltage: 10V; Supplier: Farnell; Supplier Part Number: 4327584; RoHS: Compliant; Category: Ceramic Capacitors; Stock: 190000; Pricing: 10000=0,0124 (EUR); Case/Package: 0402; Case Code (Imperial): 0402; Case Code (Metric): 1005; Depth: 500µm; Dielectric: X5R; Dielectric Material: Ceramic; Height: 500µm; Lead Free: Lead Free; Length: 1mm; Lifecycle Status: NRND; Material: Ceramic; Max Operating Temperature: 85°C; Min Operating Temperature: -55°C; Mounting Technology: Surface Mount; Pins: 2; Number of Terminals: 2; Packaging: Cut Tape; Radiation Hardening: No; REACH SVHC: Yes; Schedule B: 8532240020, 8532240020|8532240020, 8532240020|8532240020|8532240020, 8532240020|8532240020|8532240020|8532240020; Termination: SMD/SMT; Thickness: 500µm; Voltage Rating: 10V; Voltage Rating (DC): 10V; Width: 500µm; ComponentLink1URL: https://datasheet.octopart.com:443/GRM155R61A474KE15D-Murata-datasheet-62317107.pdf?src-supplier=element14+APAC; ComponentLink1Description: https://datasheet.octopart.com:443/GRM155R61A474KE15D-Murata-datasheet-62317107.pdf?src-supplier=element14+APAC; ComponentLink2URL: https://datasheet.octopart.com:443/GRM155R61A474KE15D-Murata-datasheet-17853093.pdf?src-supplier=element14+APAC; ComponentLink2Description: https://datasheet.octopart.com:443/GRM155R61A474KE15D-Murata-datasheet-17853093.pdf?src-supplier=element14+APAC; ComponentLink3URL: https://datasheet.octopart.com:443/GRM155R61A474KE15D-Murata-datasheet-8817987.pdf?src-supplier=Newark; ComponentLink3Description: https://datasheet.octopart.com:443/GRM155R61A474KE15D-Murata-datasheet-8817987.pdf?src-supplier=Newark; ComponentLink4URL: https://datasheet.octopart.com:443/GRM155R61A474KE15D-Murata-datasheet-8332149.pdf?src-supplier=_legacy+Avnet; ComponentLink4Description: https://datasheet.octopart.com:443/GRM155R61A474KE15D-Murata-datasheet-8332149.pdf?src-supplier=_legacy+Avnet; ComponentLink5URL: https://datasheet.octopart.com:443/GRM155R61A474KE15D-Murata-datasheet-165579666.pdf?src-supplier=TME; ComponentLink5Description: https://datasheet.octopart.com:443/GRM155R61A474KE15D-Murata-datasheet-165579666.pdf?src-supplier=TME; ComponentLink6URL: https://datasheet.octopart.com:443/GRM155R61A474KE15D-Murata-datasheet-141266224.pdf?src-supplier=Ciiva; ComponentLink6Description: https://datasheet.octopart.com:443/GRM155R61A474KE15D-Murata-datasheet-141266224.pdf?src-supplier=Ciiva; ComponentLink7URL: https://datasheet.octopart.com:443/GRM155R61A474KE15D-Murata-datasheet-140690082.pdf?src-supplier=Ciiva; ComponentLink7Description: https://datasheet.octopart.com:443/GRM155R61A474KE15D-Murata-datasheet-140690082.pdf?src-supplier=Ciiva; ComponentLink8URL: https://datasheet.octopart.com:443/GRM155R61A474KE15D-Murata-datasheet-138740728.pdf?src-supplier=Ciiva; ComponentLink8Description: https://datasheet.octopart.com:443/GRM155R61A474KE15D-Murata-datasheet-138740728.pdf?src-supplier=Ciiva; ComponentLink9URL: https://datasheet.octopart.com:443/GRM155R61A474KE15D-Murata-datasheet-22122223.pdf?src-supplier=Future+Electronics; ComponentLink9Description: https://datasheet.octopart.com:443/GRM155R61A474KE15D-Murata-datasheet-22122223.pdf?src-supplier=Future+Electronics; ComponentLink10URL: https://datasheet.octopart.com:443/GRM155R61A474KE15D-Murata-datasheet-14396880.pdf?src-supplier=Future+Electronics; ComponentLink10Description: https://datasheet.octopart.com:443/GRM155R61A474KE15D-Murata-datasheet-14396880.pdf?src-supplier=Future+Electronics; ComponentLink11URL: https://datasheet.octopart.com:443/GRM155R61A474KE15D-Murata-datasheet-44106186.pdf?src-supplier=Future+Electronics; ComponentLink11Description: https://datasheet.octopart.com:443/GRM155R61A474KE15D-Murata-datasheet-44106186.pdf?src-supplier=Future+Electronics; ComponentLink12URL: https://datasheet.octopart.com/GRM155R61A474KE15D-Murata-datasheet-12515295.pdf; ComponentLink12Description: https://datasheet.octopart.com/GRM155R61A474KE15D-Murata-datasheet-12515295.pdf; ComponentLink13URL: https://datasheet.octopart.com/GRM155R61A474KE15D-Murata-datasheet-12510076.pdf; ComponentLink13Description: https://datasheet.octopart.com/GRM155R61A474KE15D-Murata-datasheet-12510076.pdf; ComponentLink14URL: https://datasheet.octopart.com/GRM155R61A474KE15D-Murata-datasheet-11978611.pdf; ComponentLink14Description: https://datasheet.octopart.com/GRM155R61A474KE15D-Murata-datasheet-11978611.pdf; ComponentLink15URL: https://datasheet.octopart.com/GRM155R61A474KE15D-Murata-datasheet-10025737.pdf; ComponentLink15Description: https://datasheet.octopart.com/GRM155R61A474KE15D-Murata-datasheet-10025737.pdf; ComponentLink16URL: https://datasheet.octopart.com/GRM155R61A474KE15D-Murata-datasheet-8819587.pdf; ComponentLink16Description: https://datasheet.octopart.com/GRM155R61A474KE15D-Murata-datasheet-8819587.pdf; ComponentLink17URL: https://datasheet.octopart.com/GRM155R61A474KE15D-Murata-datasheet-14396879.pdf; ComponentLink17Description: https://datasheet.octopart.com/GRM155R61A474KE15D-Murata-datasheet-14396879.pdf; ComponentLink18URL: https://datasheet.octopart.com:443/GRM155R61A474KE15D-Murata-datasheet-11969797.pdf?src-supplier=Arrow+Electronics; ComponentLink18Description: https://datasheet.octopart.com:443/GRM155R61A474KE15D-Murata-datasheet-11969797.pdf?src-supplier=Arrow+Electronics; ComponentLink19URL: https://datasheet.octopart.com:443/GRM155R61A474KE15D-Murata-datasheet-118811.pdf?src-supplier=DigiKey; ComponentLink19Description: https://datasheet.octopart.com:443/GRM155R61A474KE15D-Murata-datasheet-118811.pdf?src-supplier=DigiKey; ComponentLink20URL: http://sigma.octopart.com:80/reach_statement/Murata-company-16.pdf?src-supplier=Compliance+Statements; ComponentLink20Description: http://sigma.octopart.com:80/reach_statement/Murata-company-16.pdf?src-supplier=Compliance+Statements
footprint CAP0402- GRM155R61A474KE15D (Chip Capacitor, 2-Leads, Body 1,00x0,50mm, IPC Medium Density)
pins: 1, 2